# Altium schematic symbol library ESC.SchLib: 27 symbols
Pins are listed as number, name and electrical type; pins without a type are passive.

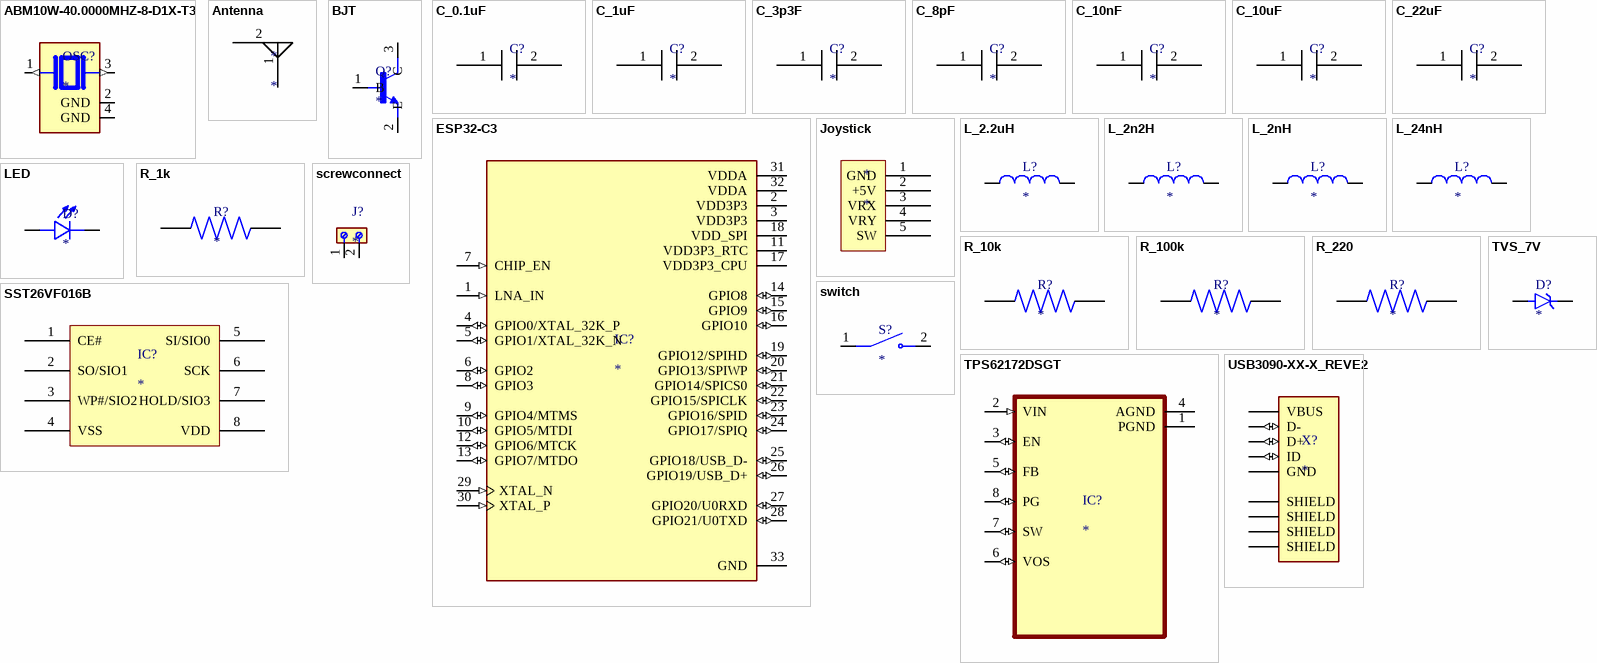
[diagram p0: symbols ABM10W-40.0000MHZ-8-D1X-T3 to USB3090-XX-X_REVE2]

## ABM10W-40.0000MHZ-8-D1X-T3
designator OSC?
IoT OPTIMIZED LOW PROFILE QUARTZ CRYSTAL; MF: Abracon; MP: ABM10W-40.0000MHZ-8-D1X-T3; SnapEDA_Link: https://www.snapeda.com/parts/ABM10W-40.0000MHZ-8-D1X-T3/Abracon/view-part/?ref=snap; Package: SMD-4 Abracon; Value: *; Check_prices: https://www.snapeda.com/parts/ABM10W-40.0000MHZ-8-D1X-T3/Abracon/view-part/?ref=eda
footprint XTAL_ABM10W-40.0000MHZ-8-D1X-T3
pins: 1 (out), 2 GND (power), 3 2 (out), 4 GND (power)

## Antenna
designator *
footprint Antenna
pins: 1 feed, 2

## BJT
designator Q?
Transistor, Bipolar,Si,NPN,General Purpose,VCEO 40VDC,IC 200mA,PD 225mW,SOT-23 | ON Semiconductor MMBT3904LT1G; SnapEDA_Link: https://www.snapeda.com/parts/MMBT3904LT1G/Onsemi/view-part/?ref=snap; Package: SOT-23-3 ON Semiconductor; Value: *; MF: ON Semiconductor; MP: MMBT3904LT1G; Check_prices: https://www.snapeda.com/parts/MMBT3904LT1G/Onsemi/view-part/?ref=eda
footprint SOT95P240X111-3N
pins: 1 B, 2 E, 3 C

## C_0.1uF
designator C?
footprint 0603
pins: 1, 2 0

## C_1uF
designator C?
footprint 0603
pins: 1, 2 0

## C_3p3F
designator C?
footprint 0603
pins: 1, 2 0

## C_8pF
designator C?
footprint 0603
pins: 1, 2 0

## C_10nF
designator C?
footprint 0603
pins: 1, 2 0

## C_10uF
designator C?
footprint 0603
pins: 1, 2 0

## C_22uF
designator C?
footprint 0603
pins: 1, 2 0

## ESP32-C3
designator IC?
WiFi Modules (802.11) (Engineering Samples Only) SMD IC ESP32-C3, RISC-V single-core MCU, 2.4G Wi-Fi & BLE 5.0 combo, QFN 32-pin, 5*5 mm, 40 ~ 105C; MF: Espressif Systems; SnapEDA_Link: https://www.snapeda.com/parts/ESP32-C3/Espressif+Systems/view-part/?ref=snap; Package: VFQFN-32 Espressif Systems; Value: *; MP: ESP32-C3; Check_prices: https://www.snapeda.com/parts/ESP32-C3/Espressif+Systems/view-part/?ref=eda
footprint QFN50P500X500X90-33N
pins: 1 LNA_IN (in), 2 VDD3P3 (power), 3 VDD3P3 (power), 4 GPIO0/XTAL_32K_P (io), 5 GPIO1/XTAL_32K_N (io), 6 GPIO2 (io), 7 CHIP_EN (in), 8 GPIO3 (io), 9 GPIO4/MTMS (io), 10 GPIO5/MTDI (io), 11 VDD3P3_RTC (power), 12 GPIO6/MTCK (io), 13 GPIO7/MTDO (io), 14 GPIO8 (io), 15 GPIO9 (io), 16 GPIO10 (io), 17 VDD3P3_CPU (power), 18 VDD_SPI (power), 19 GPIO12/SPIHD (io), 20 GPIO13/SPIWP (io), 21 GPIO14/SPICS0 (io), 22 GPIO15/SPICLK (io), 23 GPIO16/SPID (io), 24 GPIO17/SPIQ (io), 25 GPIO18/USB_D- (io), 26 GPIO19/USB_D+ (io), 27 GPIO20/U0RXD (io), 28 GPIO21/U0TXD (io), 29 XTAL_N (in), 30 XTAL_P (in), 31 VDDA (power), 32 VDDA (power), 33 GND (power)

## Joystick
designator *
footprint joystick
pins: 1 GND, 2 +5V, 3 VRX, 4 VRY, 5 SW

## L_2.2uH
designator L?
MP: DFE201612E-2R2M=P2; MF: Murata Electronics; Package: 2016 Murata; Availability: Unavailable; Value: *; SnapEDA_Link: https://www.snapeda.com/parts/DFE201612E-2R2M%3DP2/Murata%20Electronics%20North%20America/view-part/703024/?ref=snap; Price: None
footprint 0603
pins: 1, 2

## L_2n2H
designator L?
MP: DFE201612E-2R2M=P2; MF: Murata Electronics; Package: 2016 Murata; Availability: Unavailable; Value: *; SnapEDA_Link: https://www.snapeda.com/parts/DFE201612E-2R2M%3DP2/Murata%20Electronics%20North%20America/view-part/703024/?ref=snap; Price: None
footprint 0603
pins: 1, 2

## L_2nH
designator L?
MP: DFE201612E-2R2M=P2; MF: Murata Electronics; Package: 2016 Murata; Availability: Unavailable; Value: *; SnapEDA_Link: https://www.snapeda.com/parts/DFE201612E-2R2M%3DP2/Murata%20Electronics%20North%20America/view-part/703024/?ref=snap; Price: None
footprint 0603
pins: 1, 2

## L_24nH
designator L?
MP: DFE201612E-2R2M=P2; MF: Murata Electronics; Package: 2016 Murata; Availability: Unavailable; Value: *; SnapEDA_Link: https://www.snapeda.com/parts/DFE201612E-2R2M%3DP2/Murata%20Electronics%20North%20America/view-part/703024/?ref=snap; Price: None
footprint 0603
pins: 1, 2

## LED
designator D?
2.6 V Red LED SMD; MF: Osram; MP: LHN974 RED LED 1206; SnapEDA_Link: https://www.snapeda.com/parts/LHN974%20RED%20LED%201206/Osram/view-part/?ref=snap; Package: None; Value: *; Check_prices: https://www.snapeda.com/parts/LHN974%20RED%20LED%201206/Osram/view-part/?ref=eda
footprint LEDC3216X120N
pins: NEG, POS

## R_1k
designator R?
MF: Yageo; MP: MFR-25FBF52-10K; SnapEDA_Link: https://www.snapeda.com/parts/MFR-25FBF52-10K/Yageo/view-part/?ref=snap; Package: RADIAL-2 YAGEO; Value: *; Check_prices: https://www.snapeda.com/parts/MFR-25FBF52-10K/Yageo/view-part/?ref=eda
footprint 0603
pins: 1, 2

## R_10k
designator R?
MF: Yageo; MP: MFR-25FBF52-10K; SnapEDA_Link: https://www.snapeda.com/parts/MFR-25FBF52-10K/Yageo/view-part/?ref=snap; Package: RADIAL-2 YAGEO; Value: *; Check_prices: https://www.snapeda.com/parts/MFR-25FBF52-10K/Yageo/view-part/?ref=eda
footprint 0603
pins: 1, 2

## R_100k
designator R?
MF: Yageo; MP: MFR-25FBF52-10K; SnapEDA_Link: https://www.snapeda.com/parts/MFR-25FBF52-10K/Yageo/view-part/?ref=snap; Package: RADIAL-2 YAGEO; Value: *; Check_prices: https://www.snapeda.com/parts/MFR-25FBF52-10K/Yageo/view-part/?ref=eda
footprint 0603
pins: 1, 2

## R_220
designator R?
MF: Yageo; MP: MFR-25FBF52-10K; SnapEDA_Link: https://www.snapeda.com/parts/MFR-25FBF52-10K/Yageo/view-part/?ref=snap; Package: RADIAL-2 YAGEO; Value: *; Check_prices: https://www.snapeda.com/parts/MFR-25FBF52-10K/Yageo/view-part/?ref=eda
footprint 0603
pins: 1, 2

## screwconnect
designator J?
2 Position Wire to Board Terminal Block Horizontal with Board 0.197 (5.00mm) Through Hole; MF: WÃ¼rth Elektronik; MP: 691137710002; SnapEDA_Link: https://www.snapeda.com/parts/691137710002/W%25C3%25BCrth+Elektronik+Midcom/view-part/?ref=snap; Package: None; Value: *; Check_prices: https://www.snapeda.com/parts/691137710002/W%25C3%25BCrth+Elektronik+Midcom/view-part/?ref=eda
footprint supply
pins: 1, 2

## SST26VF016B
designator IC?
footprint SOIC127P600X175-8N
pins: 1 CE#, 2 SO/SIO1, 3 WP#/SIO2, 4 VSS, 5 SI/SIO0, 6 SCK, 7 HOLD/SIO3, 8 VDD

## switch
designator S?
6.1 x 3.7 mm, 2.5 mm Actuator Height, 160 gf, White, Surface Mount, SPST, Tactile Switch / TS09-63-25-WT-160-SMT-TR; MF: Same Sky; SnapEDA_Link: https://www.snapeda.com/parts/TS09-63-25-WT-160-SMT-TR/Same+Sky/view-part/?ref=snap; Package: None; Value: *; MP: TS09-63-25-WT-160-SMT-TR; Check_prices: https://www.snapeda.com/parts/TS09-63-25-WT-160-SMT-TR/Same+Sky/view-part/?ref=eda
footprint switch
pins: 1, 2

## TPS62172DSGT
designator IC?
Buck Switching Regulator IC Positive Fixed 3.3V 1 Output 500mA 8-WFDFN Exposed Pad; MF: Texas Instruments; MP: TPS62172DSG; SnapEDA_Link: https://www.snapeda.com/parts/TPS62172DSG/Texas+Instruments/view-part/?ref=snap; Package: WSON-8 Texas Instruments; Value: *; Check_prices: https://www.snapeda.com/parts/TPS62172DSG/Texas+Instruments/view-part/?ref=eda
footprint TPS62172
pins: 1 PGND (power), 2 VIN (in), 3 EN (io), 4 AGND (power), 5 FB (io), 6 VOS (io), 7 SW (io), 8 PG (io)

## TVS_7V
designator D?
600W Surface Mount TVS Diode | Littelfuse SMBJ7.5A; MF: Littelfuse Inc.; Package: None; Price: None; Value: *; SnapEDA_Link: https://www.snapeda.com/parts/SMBJ7.5A/Littelfuse/view-part/?ref=snap; MP: SMBJ7.5A; Availability: Unavailable; Check_prices: https://www.snapeda.com/parts/SMBJ7.5A/Littelfuse/view-part/?ref=eda
footprint TVS_6V
pins: 1 K, 2 A

## USB3090-XX-X_REVE2
designator X?
USB - micro AB USB 2.0 Receptacle Connector 5 Position Surface Mount, Right Angle; Through Hole, 2.35mm profile, 5 Pins, Horizontal, Bottom mount; MF: Global Connector Technology; MP: USB3090-30-A; SnapEDA_Link: https://www.snapeda.com/parts/USB3090-30-A/Global+Connector+Technology/view-part/?ref=snap; Package: None; Value: *; Check_prices: https://www.snapeda.com/parts/USB3090-30-A/Global+Connector+Technology/view-part/?ref=eda
footprint GCT_USB3090-XX-X_REVE2
pins: 1 VBUS (power), 2 D- (io), 3 D+ (io), 4 ID (io), 5 GND (power), SH1 SHIELD (power), SH2 SHIELD (power), SH3 SHIELD (power), SH4 SHIELD (power)